# Altium schematic symbol library MCP9700-MCP9701.SchLib: 1 symbol
Pins are listed as number, name and electrical type; pins without a type are passive.

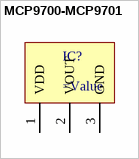
[diagram p0: symbol MCP9700-MCP9701]

## MCP9700-MCP9701
designator IC?
=Description
pins: 1 VDD, 2 VOUT, 3 GND